# EAGLE library part QT1106 (library quantum-research-group)
QWheel (TM) / QSlide (TM) / QTouch (TM) IC Source: www.qprox.com ... QT1106_-8IR0.07-16262.pdf
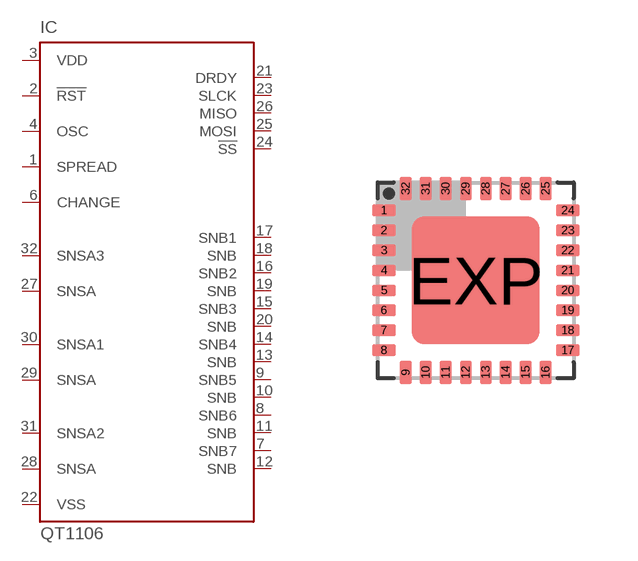
[diagram p0: symbol with the pads of QFN32; footprint QFN32]

Designator prefix IC

## QT1106 (MPN: QT1106-ISG; OC_FARNELL: 1275992; OC_NEWARK: 24M6663)  [QFN32]
1  SPREAD  oc
2  !RST  in
3  VDD  pwr
4  OSC  in
5  NC  nc
6  CHANGE  pas
7  SNB7  pas
8  SNB6  pas
9  SNB5  pas
10  SNB  pas
11  SNB  pas
12  SNB  pas
13  SNB  pas
14  SNB4  pas
15  SNB3  pas
16  SNB2  pas
17  SNB1  pas
18  SNB  pas
19  SNB  pas
20  SNB  pas
21  DRDY  oc
22  VSS  pwr
23  SLCK  in
24  !SS  in
25  MOSI  in
26  MISO  oc
27  SNSA
28  SNSA
29  SNSA
30  SNSA1
31  SNSA2
32  SNSA3

## Footprint QFN32 (pad centres in mm)
QFN 32 5 x 5 mm Source: http://datasheets.maxim-ic.com/en/ds/MAX7042.pdf
smd 0.6 x 0.3: 1 -2.3,1.75; 2 -2.3,1.25; 3 -2.3,0.75; 4 -2.3,0.25; 5 -2.3,-0.25; 6 -2.3,-0.75; 7 -2.3,-1.25; 8 -2.3,-1.75; 17 2.3,-1.75; 18 2.3,-1.25; 19 2.3,-0.75; 20 2.3,-0.25; 21 2.3,0.25; 22 2.3,0.75; 23 2.3,1.25; 24 2.3,1.75
smd 0.3 x 0.6: 9 -1.75,-2.3; 10 -1.25,-2.3; 11 -0.75,-2.3; 12 -0.25,-2.3; 13 0.25,-2.3; 14 0.75,-2.3; 15 1.25,-2.3; 16 1.75,-2.3; 25 1.75,2.3; 26 1.25,2.3; 27 0.75,2.3; 28 0.25,2.3; 29 -0.25,2.3; 30 -0.75,2.3; 31 -1.25,2.3; 32 -1.75,2.3
smd 3.2 x 3.2: EXP 0,0